# Altium footprint library PcbLib1.PcbLib: 90 footprints (part 3 of 6)
Each footprint in its own frame and in the unit in brackets; x right, y up, seen from the top. Pads: shape width x height; smd on the part's side, far side on the other; paste and mask are expansions set on the pad; w line width, h text height; cw(c..) or ccw(c..) is an arc to the next point about the centre after c.
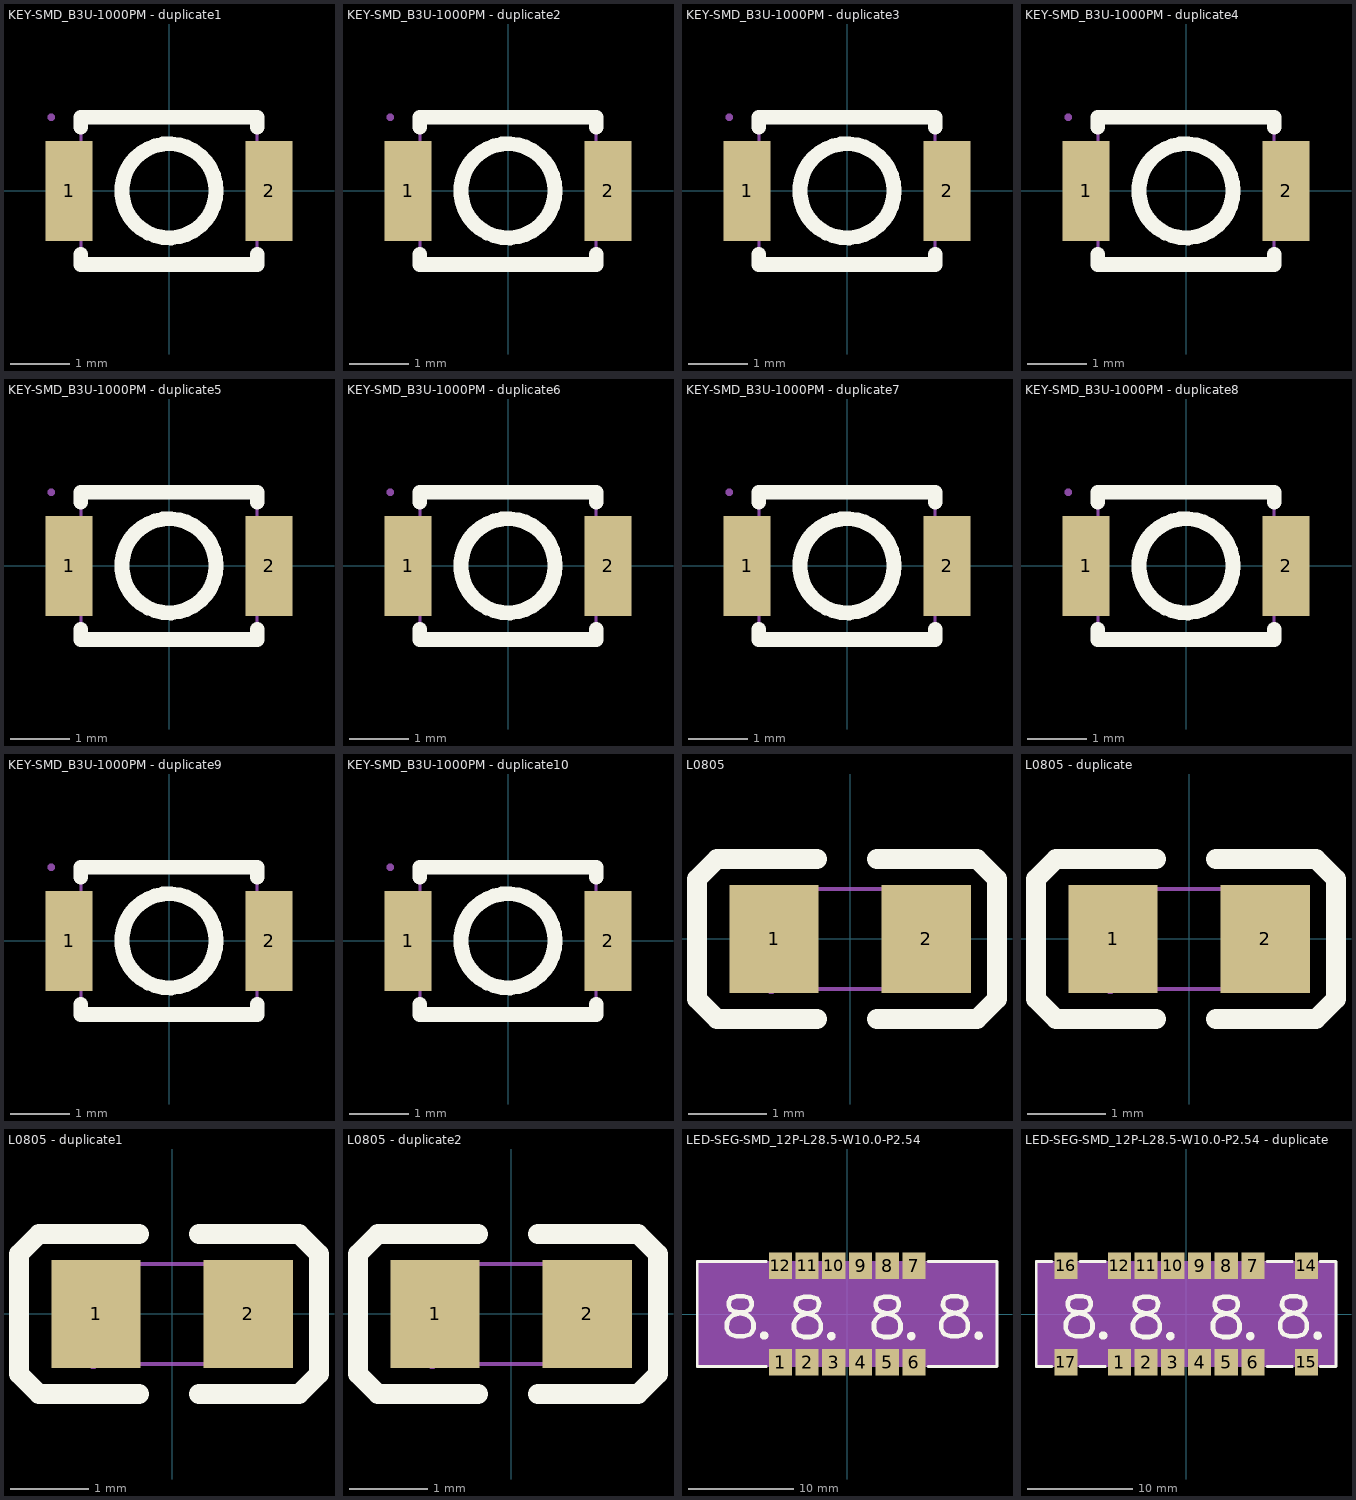
[diagram p2: the footprints below, top view; thin cyan lines are the x and y axes]

## KEY-SMD_B3U-1000PM - duplicate1 [mm]
pads (2):
  rect 0.8x1.7 smd paste+0.051: 1(-1.7,0) 2(1.7,0)
Top Overlay:
  circle w0.254: c0,0 r0.8
  lines w0.254: -1.5,-1.087 -1.5,-1.25 ; -1.5,1.081 -1.5,1.25 ; 1.5,-1.081 1.5,-1.25 ; 1.5,1.081 1.5,1.25 ; -1.5,-1.25 1.5,-1.25 ; -1.5,-1.25 1.5,-1.25 ; -1.5,1.25 1.5,1.25 ; -1.5,1.25 1.5,1.25
Mechanical 7:
  lines w0.051: -1.5,-1.25 1.5,-1.25 1.5,1.25 -1.5,1.25 -1.5,-1.25
Mechanical 8:
  region: -1.94,1.25 -1.94,1.225 -1.975,1.19 -2.025,1.19 -2.06,1.225 -2.06,1.25 -2.06,1.275 -2.025,1.31 -1.975,1.31 -1.94,1.275
Mechanical 9:
  region: -2,-0.7 -2,0.7 -1.4,0.7 -1.4,-0.7
  region: 1.4,-0.7 1.4,0.7 2,0.7 2,-0.7

## KEY-SMD_B3U-1000PM - duplicate2 [mm]
pads (2):
  rect 0.8x1.7 smd paste+0.051: 1(-1.7,0) 2(1.7,0)
Top Overlay:
  circle w0.254: c0,0 r0.8
  lines w0.254: -1.5,-1.087 -1.5,-1.25 ; -1.5,1.081 -1.5,1.25 ; 1.5,-1.081 1.5,-1.25 ; 1.5,1.081 1.5,1.25 ; -1.5,-1.25 1.5,-1.25 ; -1.5,-1.25 1.5,-1.25 ; -1.5,1.25 1.5,1.25 ; -1.5,1.25 1.5,1.25
Mechanical 7:
  lines w0.051: -1.5,-1.25 1.5,-1.25 1.5,1.25 -1.5,1.25 -1.5,-1.25
Mechanical 8:
  region: -1.94,1.25 -1.94,1.225 -1.975,1.19 -2.025,1.19 -2.06,1.225 -2.06,1.25 -2.06,1.275 -2.025,1.31 -1.975,1.31 -1.94,1.275
Mechanical 9:
  region: -2,-0.7 -2,0.7 -1.4,0.7 -1.4,-0.7
  region: 1.4,-0.7 1.4,0.7 2,0.7 2,-0.7

## KEY-SMD_B3U-1000PM - duplicate3 [mm]
pads (2):
  rect 0.8x1.7 smd paste+0.051: 1(-1.7,0) 2(1.7,0)
Top Overlay:
  circle w0.254: c0,0 r0.8
  lines w0.254: -1.5,-1.087 -1.5,-1.25 ; -1.5,1.081 -1.5,1.25 ; 1.5,-1.081 1.5,-1.25 ; 1.5,1.081 1.5,1.25 ; -1.5,-1.25 1.5,-1.25 ; -1.5,-1.25 1.5,-1.25 ; -1.5,1.25 1.5,1.25 ; -1.5,1.25 1.5,1.25
Mechanical 7:
  lines w0.051: -1.5,-1.25 1.5,-1.25 1.5,1.25 -1.5,1.25 -1.5,-1.25
Mechanical 8:
  region: -1.94,1.25 -1.94,1.225 -1.975,1.19 -2.025,1.19 -2.06,1.225 -2.06,1.25 -2.06,1.275 -2.025,1.31 -1.975,1.31 -1.94,1.275
Mechanical 9:
  region: -2,-0.7 -2,0.7 -1.4,0.7 -1.4,-0.7
  region: 1.4,-0.7 1.4,0.7 2,0.7 2,-0.7

## KEY-SMD_B3U-1000PM - duplicate4 [mm]
pads (2):
  rect 0.8x1.7 smd paste+0.051: 1(-1.7,0) 2(1.7,0)
Top Overlay:
  circle w0.254: c0,0 r0.8
  lines w0.254: -1.5,-1.087 -1.5,-1.25 ; -1.5,1.081 -1.5,1.25 ; 1.5,-1.081 1.5,-1.25 ; 1.5,1.081 1.5,1.25 ; -1.5,-1.25 1.5,-1.25 ; -1.5,-1.25 1.5,-1.25 ; -1.5,1.25 1.5,1.25 ; -1.5,1.25 1.5,1.25
Mechanical 7:
  lines w0.051: -1.5,-1.25 1.5,-1.25 1.5,1.25 -1.5,1.25 -1.5,-1.25
Mechanical 8:
  region: -1.94,1.25 -1.94,1.225 -1.975,1.19 -2.025,1.19 -2.06,1.225 -2.06,1.25 -2.06,1.275 -2.025,1.31 -1.975,1.31 -1.94,1.275
Mechanical 9:
  region: -2,-0.7 -2,0.7 -1.4,0.7 -1.4,-0.7
  region: 1.4,-0.7 1.4,0.7 2,0.7 2,-0.7

## KEY-SMD_B3U-1000PM - duplicate5 [mm]
pads (2):
  rect 0.8x1.7 smd paste+0.051: 1(-1.7,0) 2(1.7,0)
Top Overlay:
  circle w0.254: c0,0 r0.8
  lines w0.254: -1.5,-1.087 -1.5,-1.25 ; -1.5,1.081 -1.5,1.25 ; 1.5,-1.081 1.5,-1.25 ; 1.5,1.081 1.5,1.25 ; -1.5,-1.25 1.5,-1.25 ; -1.5,-1.25 1.5,-1.25 ; -1.5,1.25 1.5,1.25 ; -1.5,1.25 1.5,1.25
Mechanical 7:
  lines w0.051: -1.5,-1.25 1.5,-1.25 1.5,1.25 -1.5,1.25 -1.5,-1.25
Mechanical 8:
  region: -1.94,1.25 -1.94,1.225 -1.975,1.19 -2.025,1.19 -2.06,1.225 -2.06,1.25 -2.06,1.275 -2.025,1.31 -1.975,1.31 -1.94,1.275
Mechanical 9:
  region: -2,-0.7 -2,0.7 -1.4,0.7 -1.4,-0.7
  region: 1.4,-0.7 1.4,0.7 2,0.7 2,-0.7

## KEY-SMD_B3U-1000PM - duplicate6 [mm]
pads (2):
  rect 0.8x1.7 smd paste+0.051: 1(-1.7,0) 2(1.7,0)
Top Overlay:
  circle w0.254: c0,0 r0.8
  lines w0.254: -1.5,-1.087 -1.5,-1.25 ; -1.5,1.081 -1.5,1.25 ; 1.5,-1.081 1.5,-1.25 ; 1.5,1.081 1.5,1.25 ; -1.5,-1.25 1.5,-1.25 ; -1.5,-1.25 1.5,-1.25 ; -1.5,1.25 1.5,1.25 ; -1.5,1.25 1.5,1.25
Mechanical 7:
  lines w0.051: -1.5,-1.25 1.5,-1.25 1.5,1.25 -1.5,1.25 -1.5,-1.25
Mechanical 8:
  region: -1.94,1.25 -1.94,1.225 -1.975,1.19 -2.025,1.19 -2.06,1.225 -2.06,1.25 -2.06,1.275 -2.025,1.31 -1.975,1.31 -1.94,1.275
Mechanical 9:
  region: -2,-0.7 -2,0.7 -1.4,0.7 -1.4,-0.7
  region: 1.4,-0.7 1.4,0.7 2,0.7 2,-0.7

## KEY-SMD_B3U-1000PM - duplicate7 [mm]
pads (2):
  rect 0.8x1.7 smd paste+0.051: 1(-1.7,0) 2(1.7,0)
Top Overlay:
  circle w0.254: c0,0 r0.8
  lines w0.254: -1.5,-1.087 -1.5,-1.25 ; -1.5,1.081 -1.5,1.25 ; 1.5,-1.081 1.5,-1.25 ; 1.5,1.081 1.5,1.25 ; -1.5,-1.25 1.5,-1.25 ; -1.5,-1.25 1.5,-1.25 ; -1.5,1.25 1.5,1.25 ; -1.5,1.25 1.5,1.25
Mechanical 7:
  lines w0.051: -1.5,-1.25 1.5,-1.25 1.5,1.25 -1.5,1.25 -1.5,-1.25
Mechanical 8:
  region: -1.94,1.25 -1.94,1.225 -1.975,1.19 -2.025,1.19 -2.06,1.225 -2.06,1.25 -2.06,1.275 -2.025,1.31 -1.975,1.31 -1.94,1.275
Mechanical 9:
  region: -2,-0.7 -2,0.7 -1.4,0.7 -1.4,-0.7
  region: 1.4,-0.7 1.4,0.7 2,0.7 2,-0.7

## KEY-SMD_B3U-1000PM - duplicate8 [mm]
pads (2):
  rect 0.8x1.7 smd paste+0.051: 1(-1.7,0) 2(1.7,0)
Top Overlay:
  circle w0.254: c0,0 r0.8
  lines w0.254: -1.5,-1.087 -1.5,-1.25 ; -1.5,1.081 -1.5,1.25 ; 1.5,-1.081 1.5,-1.25 ; 1.5,1.081 1.5,1.25 ; -1.5,-1.25 1.5,-1.25 ; -1.5,-1.25 1.5,-1.25 ; -1.5,1.25 1.5,1.25 ; -1.5,1.25 1.5,1.25
Mechanical 7:
  lines w0.051: -1.5,-1.25 1.5,-1.25 1.5,1.25 -1.5,1.25 -1.5,-1.25
Mechanical 8:
  region: -1.94,1.25 -1.94,1.225 -1.975,1.19 -2.025,1.19 -2.06,1.225 -2.06,1.25 -2.06,1.275 -2.025,1.31 -1.975,1.31 -1.94,1.275
Mechanical 9:
  region: -2,-0.7 -2,0.7 -1.4,0.7 -1.4,-0.7
  region: 1.4,-0.7 1.4,0.7 2,0.7 2,-0.7

## KEY-SMD_B3U-1000PM - duplicate9 [mm]
pads (2):
  rect 0.8x1.7 smd paste+0.051: 1(-1.7,0) 2(1.7,0)
Top Overlay:
  circle w0.254: c0,0 r0.8
  lines w0.254: -1.5,-1.087 -1.5,-1.25 ; -1.5,1.081 -1.5,1.25 ; 1.5,-1.081 1.5,-1.25 ; 1.5,1.081 1.5,1.25 ; -1.5,-1.25 1.5,-1.25 ; -1.5,-1.25 1.5,-1.25 ; -1.5,1.25 1.5,1.25 ; -1.5,1.25 1.5,1.25
Mechanical 7:
  lines w0.051: -1.5,-1.25 1.5,-1.25 1.5,1.25 -1.5,1.25 -1.5,-1.25
Mechanical 8:
  region: -1.94,1.25 -1.94,1.225 -1.975,1.19 -2.025,1.19 -2.06,1.225 -2.06,1.25 -2.06,1.275 -2.025,1.31 -1.975,1.31 -1.94,1.275
Mechanical 9:
  region: -2,-0.7 -2,0.7 -1.4,0.7 -1.4,-0.7
  region: 1.4,-0.7 1.4,0.7 2,0.7 2,-0.7

## KEY-SMD_B3U-1000PM - duplicate10 [mm]
pads (2):
  rect 0.8x1.7 smd paste+0.051: 1(-1.7,0) 2(1.7,0)
Top Overlay:
  circle w0.254: c0,0 r0.8
  lines w0.254: -1.5,-1.087 -1.5,-1.25 ; -1.5,1.081 -1.5,1.25 ; 1.5,-1.081 1.5,-1.25 ; 1.5,1.081 1.5,1.25 ; -1.5,-1.25 1.5,-1.25 ; -1.5,-1.25 1.5,-1.25 ; -1.5,1.25 1.5,1.25 ; -1.5,1.25 1.5,1.25
Mechanical 7:
  lines w0.051: -1.5,-1.25 1.5,-1.25 1.5,1.25 -1.5,1.25 -1.5,-1.25
Mechanical 8:
  region: -1.94,1.25 -1.94,1.225 -1.975,1.19 -2.025,1.19 -2.06,1.225 -2.06,1.25 -2.06,1.275 -2.025,1.31 -1.975,1.31 -1.94,1.275
Mechanical 9:
  region: -2,-0.7 -2,0.7 -1.4,0.7 -1.4,-0.7
  region: 1.4,-0.7 1.4,0.7 2,0.7 2,-0.7

## L0805 [mm]
pads (2):
  rect 1.133x1.377 smd paste-100 mask+0.051: 1(-0.966,0) 2(0.966,0)
Top Overlay:
  lines w0.254: -0.421,-1.016 -1.691,-1.016 -1.945,-0.762 -1.945,-0.635 -1.945,0.762 -1.691,1.016 -1.564,1.016 -0.421,1.016 ; 0.341,-1.016 1.484,-1.016 1.611,-1.016 1.865,-0.762 1.865,0.635 1.865,0.762 1.611,1.016 0.341,1.016
Top Paste:
  region: -0.36,-0.22 -0.36,0.22 -0.745,0.689 -1.433,0.689 -1.533,0.589 -1.533,-0.588 -1.433,-0.688 -0.745,-0.688
  region: 0.36,-0.22 0.36,0.22 0.745,0.689 1.433,0.689 1.533,0.589 1.533,-0.588 1.433,-0.688 0.745,-0.688
Mechanical 7:
  lines w0.051: -1,-0.637 -1,0.638 1,0.638 1,-0.637 -1,-0.637
Mechanical 8:
  region: -0.94,-0.637 -0.94,-0.662 -0.975,-0.697 -1.025,-0.697 -1.06,-0.662 -1.06,-0.637 -1.06,-0.613 -1.025,-0.577 -0.975,-0.577 -0.94,-0.613
Mechanical 9:
  region: 1,-0.637 1,0.638 0.6,0.638 0.6,-0.637
  region: -1,-0.637 -1,0.638 -0.6,0.638 -0.6,-0.637

## L0805 - duplicate [mm]
pads (2):
  rect 1.133x1.377 smd paste-100 mask+0.051: 1(-0.966,0) 2(0.966,0)
Top Overlay:
  lines w0.254: -0.421,-1.016 -1.691,-1.016 -1.945,-0.762 -1.945,-0.635 -1.945,0.762 -1.691,1.016 -1.564,1.016 -0.421,1.016 ; 0.341,-1.016 1.484,-1.016 1.611,-1.016 1.865,-0.762 1.865,0.635 1.865,0.762 1.611,1.016 0.341,1.016
Top Paste:
  region: -0.36,-0.22 -0.36,0.22 -0.745,0.689 -1.433,0.689 -1.533,0.589 -1.533,-0.588 -1.433,-0.688 -0.745,-0.688
  region: 0.36,-0.22 0.36,0.22 0.745,0.689 1.433,0.689 1.533,0.589 1.533,-0.588 1.433,-0.688 0.745,-0.688
Mechanical 7:
  lines w0.051: -1,-0.637 -1,0.638 1,0.638 1,-0.637 -1,-0.637
Mechanical 8:
  region: -0.94,-0.637 -0.94,-0.662 -0.975,-0.697 -1.025,-0.697 -1.06,-0.662 -1.06,-0.637 -1.06,-0.613 -1.025,-0.577 -0.975,-0.577 -0.94,-0.613
Mechanical 9:
  region: 1,-0.637 1,0.638 0.6,0.638 0.6,-0.637
  region: -1,-0.637 -1,0.638 -0.6,0.638 -0.6,-0.637

## L0805 - duplicate1 [mm]
pads (2):
  rect 1.133x1.377 smd paste-100 mask+0.051: 1(-0.966,0) 2(0.966,0)
Top Overlay:
  lines w0.254: -0.421,-1.016 -1.691,-1.016 -1.945,-0.762 -1.945,-0.635 -1.945,0.762 -1.691,1.016 -1.564,1.016 -0.421,1.016 ; 0.341,-1.016 1.484,-1.016 1.611,-1.016 1.865,-0.762 1.865,0.635 1.865,0.762 1.611,1.016 0.341,1.016
Top Paste:
  region: -0.36,-0.22 -0.36,0.22 -0.745,0.689 -1.433,0.689 -1.533,0.589 -1.533,-0.588 -1.433,-0.688 -0.745,-0.688
  region: 0.36,-0.22 0.36,0.22 0.745,0.689 1.433,0.689 1.533,0.589 1.533,-0.588 1.433,-0.688 0.745,-0.688
Mechanical 7:
  lines w0.051: -1,-0.637 -1,0.638 1,0.638 1,-0.637 -1,-0.637
Mechanical 8:
  region: -0.94,-0.637 -0.94,-0.662 -0.975,-0.697 -1.025,-0.697 -1.06,-0.662 -1.06,-0.637 -1.06,-0.613 -1.025,-0.577 -0.975,-0.577 -0.94,-0.613
Mechanical 9:
  region: 1,-0.637 1,0.638 0.6,0.638 0.6,-0.637
  region: -1,-0.637 -1,0.638 -0.6,0.638 -0.6,-0.637

## L0805 - duplicate2 [mm]
pads (2):
  rect 1.133x1.377 smd paste-100 mask+0.051: 1(-0.966,0) 2(0.966,0)
Top Overlay:
  lines w0.254: -0.421,-1.016 -1.691,-1.016 -1.945,-0.762 -1.945,-0.635 -1.945,0.762 -1.691,1.016 -1.564,1.016 -0.421,1.016 ; 0.341,-1.016 1.484,-1.016 1.611,-1.016 1.865,-0.762 1.865,0.635 1.865,0.762 1.611,1.016 0.341,1.016
Top Paste:
  region: -0.36,-0.22 -0.36,0.22 -0.745,0.689 -1.433,0.689 -1.533,0.589 -1.533,-0.588 -1.433,-0.688 -0.745,-0.688
  region: 0.36,-0.22 0.36,0.22 0.745,0.689 1.433,0.689 1.533,0.589 1.533,-0.588 1.433,-0.688 0.745,-0.688
Mechanical 7:
  lines w0.051: -1,-0.637 -1,0.638 1,0.638 1,-0.637 -1,-0.637
Mechanical 8:
  region: -0.94,-0.637 -0.94,-0.662 -0.975,-0.697 -1.025,-0.697 -1.06,-0.662 -1.06,-0.637 -1.06,-0.613 -1.025,-0.577 -0.975,-0.577 -0.94,-0.613
Mechanical 9:
  region: 1,-0.637 1,0.638 0.6,0.638 0.6,-0.637
  region: -1,-0.637 -1,0.638 -0.6,0.638 -0.6,-0.637

## LED-SEG-SMD_12P-L28.5-W10.0-P2.54 [mm]
pads (12):
  rect 2.2x2.5 smd paste+0 mask+0.05: 1(-6.35,-4.6) 2(-3.81,-4.6) 3(-1.27,-4.6) 4(1.27,-4.6) 5(3.81,-4.6) 6(6.35,-4.6) 7(6.35,4.6) 8(3.81,4.6) 9(1.27,4.6) 10(-1.27,4.6) 11(-3.81,4.6) 12(-6.35,4.6)
Top Overlay:
  drawing of 30 lines, arcs and shapes, not listed
Mechanical 6:
  drawing of 20 lines, arcs and shapes, not listed
Mechanical 7:
  region: -14.25,-5 -14.25,5 14.25,5 14.25,-5
Mechanical 8:
  region: -14.22,-5 -14.22,-5.012 -14.237,-5.03 -14.262,-5.03 -14.28,-5.012 -14.28,-5 -14.28,-4.988 -14.262,-4.97 -14.237,-4.97 -14.22,-4.988
Mechanical 9:
  region: 5.35,-3.5 7.35,-3.5 7.35,-5 5.35,-5
  region: 2.81,-3.5 4.81,-3.5 4.81,-5 2.81,-5
  region: 0.27,-3.5 2.27,-3.5 2.27,-5 0.27,-5
  region: -2.27,-3.5 -0.27,-3.5 -0.27,-5 -2.27,-5
  region: -4.81,-3.5 -2.81,-3.5 -2.81,-5 -4.81,-5
  region: -7.35,-3.5 -5.35,-3.5 -5.35,-5 -7.35,-5
  region: -7.35,5 -5.35,5 -5.35,3.5 -7.35,3.5
  region: -4.81,5 -2.81,5 -2.81,3.5 -4.81,3.5
  region: -2.27,5 -0.27,5 -0.27,3.5 -2.27,3.5
  region: 5.35,5 7.35,5 7.35,3.5 5.35,3.5
  region: 2.81,5 4.81,5 4.81,3.5 2.81,3.5
  region: 0.27,5 2.27,5 2.27,3.5 0.27,3.5

## LED-SEG-SMD_12P-L28.5-W10.0-P2.54 - duplicate [mm]
pads (16):
  rect 2.2x2.5 smd paste+0 mask+0.05: 1(-6.35,-4.6) 2(-3.81,-4.6) 3(-1.27,-4.6) 4(1.27,-4.6) 5(3.81,-4.6) 6(6.35,-4.6) 7(6.35,4.6) 8(3.81,4.6) 9(1.27,4.6) 10(-1.27,4.6) 11(-3.81,4.6) 12(-6.35,4.6) 14(11.43,4.6) 15(11.43,-4.6) 16(-11.43,4.6) 17(-11.43,-4.6)
Top Overlay:
  drawing of 30 lines, arcs and shapes, not listed
Mechanical 6:
  drawing of 20 lines, arcs and shapes, not listed
Mechanical 7:
  region: -14.25,-5 -14.25,5 14.25,5 14.25,-5
Mechanical 8:
  region: -14.22,-5 -14.22,-5.012 -14.237,-5.03 -14.262,-5.03 -14.28,-5.012 -14.28,-5 -14.28,-4.988 -14.262,-4.97 -14.237,-4.97 -14.22,-4.988
Mechanical 9:
  region: 0.27,5 2.27,5 2.27,3.5 0.27,3.5
  region: 2.81,5 4.81,5 4.81,3.5 2.81,3.5
  region: 5.35,5 7.35,5 7.35,3.5 5.35,3.5
  region: -2.27,5 -0.27,5 -0.27,3.5 -2.27,3.5
  region: -4.81,5 -2.81,5 -2.81,3.5 -4.81,3.5
  region: -7.35,5 -5.35,5 -5.35,3.5 -7.35,3.5
  region: -7.35,-3.5 -5.35,-3.5 -5.35,-5 -7.35,-5
  region: -4.81,-3.5 -2.81,-3.5 -2.81,-5 -4.81,-5
  region: -2.27,-3.5 -0.27,-3.5 -0.27,-5 -2.27,-5
  region: 0.27,-3.5 2.27,-3.5 2.27,-5 0.27,-5
  region: 2.81,-3.5 4.81,-3.5 4.81,-5 2.81,-5
  region: 5.35,-3.5 7.35,-3.5 7.35,-5 5.35,-5
  region: 10.43,5 12.43,5 12.43,3.5 10.43,3.5
  region: 10.43,-3.5 12.43,-3.5 12.43,-5 10.43,-5
  region: -12.43,5 -10.43,5 -10.43,3.5 -12.43,3.5
  region: -12.43,-3.5 -10.43,-3.5 -10.43,-5 -12.43,-5